# Altium footprint library LQFP100.PcbLib: 1 footprints
Each footprint in its own frame and in the unit in brackets; x right, y up, seen from the top. Pads: shape width x height; smd on the part's side, far side on the other; paste and mask are expansions set on the pad; w line width, h text height; cw(c..) or ccw(c..) is an arc to the next point about the centre after c.
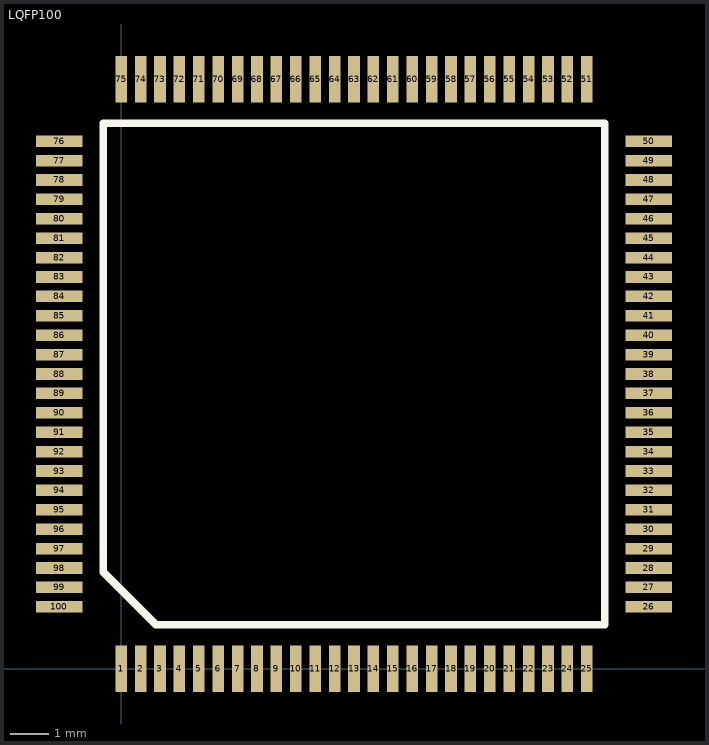
[diagram p0: the footprint, top view; thin cyan lines are the x and y axes]

## LQFP100 [mm]
pads (100):
  rect 0.3x1.2 smd: 1(0,0) 2(0.5,0) 3(1,0) 4(1.5,0) 5(2,0) 6(2.5,0) 7(3,0) 8(3.5,0) 9(4,0) 10(4.5,0) 11(5,0) 12(5.5,0) 13(6,0) 14(6.5,0) 15(7,0) 16(7.5,0) 17(8,0) 18(8.5,0) 19(9,0) 20(9.5,0) 21(10,0) 22(10.5,0) 23(11,0) 24(11.5,0) 25(12,0) 51(12,15.2) 52(11.5,15.2) 53(11,15.2) 54(10.5,15.2) 55(10,15.2) 56(9.5,15.2) 57(9,15.2) 58(8.5,15.2) 59(8,15.2) 60(7.5,15.2) 61(7,15.2) 62(6.5,15.2) 63(6,15.2) 64(5.5,15.2) 65(5,15.2) 66(4.5,15.2) 67(4,15.2) 68(3.5,15.2) 69(3,15.2) 70(2.5,15.2) 71(2,15.2) 72(1.5,15.2) 73(1,15.2) 74(0.5,15.2) 75(0,15.2)
  rect 1.2x0.3 smd: 26(13.6,1.6) 27(13.6,2.1) 28(13.6,2.6) 29(13.6,3.1) 30(13.6,3.6) 31(13.6,4.1) 32(13.6,4.6) 33(13.6,5.1) 34(13.6,5.6) 35(13.6,6.1) 36(13.6,6.6) 37(13.6,7.1) 38(13.6,7.6) 39(13.6,8.1) 40(13.6,8.6) 41(13.6,9.1) 42(13.6,9.6) 43(13.6,10.1) 44(13.6,10.6) 45(13.6,11.1) 46(13.6,11.6) 47(13.6,12.1) 48(13.6,12.6) 49(13.6,13.1) 50(13.6,13.6) 76(-1.6,13.6) 77(-1.6,13.1) 78(-1.6,12.6) 79(-1.6,12.1) 80(-1.6,11.6) 81(-1.6,11.1) 82(-1.6,10.6) 83(-1.6,10.1) 84(-1.6,9.6) 85(-1.6,9.1) 86(-1.6,8.6) 87(-1.6,8.1) 88(-1.6,7.6) 89(-1.6,7.1) 90(-1.6,6.6) 91(-1.6,6.1) 92(-1.6,5.6) 93(-1.6,5.1) 94(-1.6,4.6) 95(-1.6,4.1) 96(-1.6,3.6) 97(-1.6,3.1) 98(-1.6,2.6) 99(-1.6,2.1) 100(-1.6,1.6)
Top Overlay:
  lines w0.2: -0.465,2.497 -0.465,14.065 12.465,14.065 12.465,1.135 0.897,1.135 -0.465,2.497